# Altium schematic symbol library LQV03XMVS-IF.SCHLIB: 2 symbols
Pins are listed as number, name and electrical type; pins without a type are passive.

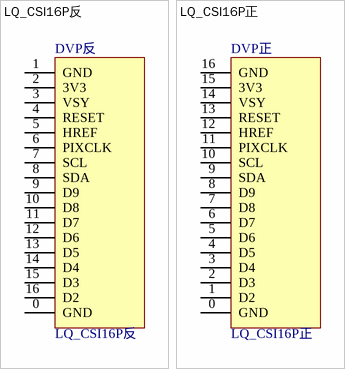
[diagram p0: symbols LQ_CSI16P反 to LQ_CSI16P正]

## LQ_CSI16P反
designator DVP反
footprint LQ_FPC0MM5-16P (Footprint not found)
pins: 0 GND, 1 GND, 2 3V3, 3 VSY, 4 RESET, 5 HREF, 6 PIXCLK, 7 SCL, 8 SDA, 9 D9, 10 D8, 11 D7, 12 D6, 13 D5, 14 D4, 15 D3, 16 D2

## LQ_CSI16P正
designator DVP正
footprint LQ_FPC0MM5-16P (Footprint not found)
pins: 0 GND, 1 D2, 2 D3, 3 D4, 4 D5, 5 D6, 6 D7, 7 D8, 8 D9, 9 SDA, 10 SCL, 11 PIXCLK, 12 HREF, 13 RESET, 14 VSY, 15 3V3, 16 GND